# Altium schematic symbol library TI ADS1255.SchLib: 1 symbol
Pins are listed as number, name and electrical type; pins without a type are passive.

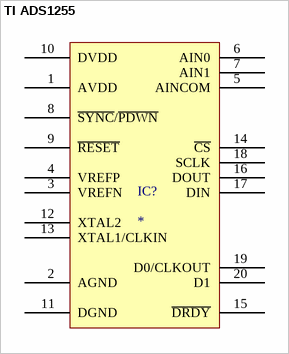
[diagram p0: symbol TI ADS1255]

## TI ADS1255
designator IC?
pins: 1 AVDD, 2 AGND, 3 VREFN, 4 VREFP, 5 AINCOM, 6 AIN0, 7 AIN1, 8 ~{SYNC}/~{PDWN}, 9 ~{RESET}, 10 DVDD, 11 DGND, 12 XTAL2, 13 XTAL1/CLKIN, 14 ~{CS}, 15 ~{DRDY}, 16 DOUT, 17 DIN, 18 SCLK, 19 D0/CLKOUT, 20 D1